# EAGLE library part SN74LVC2G08 (library TI)
SN74LVC2G08 - Dual 2-Input Positive-AND Gate Datasheet: http://www.ti.com/lit/ds/symlink/sn74lvc2g08.pdf
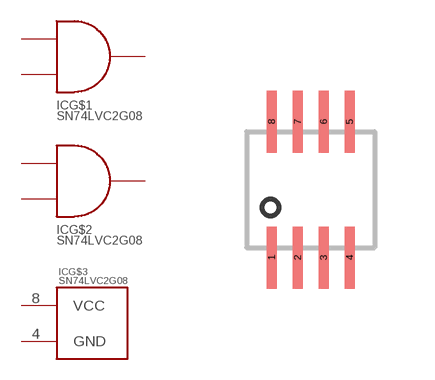
[diagram p23: symbol with the pads of DCU_(R-PDSO-G8); footprint DCU_(R-PDSO-G8)]

Designator prefix IC; gates G$1=AND G$2=AND G$3=VCC-GND

## SN74LVC2G08DCU (PARTNO: SN74LVC2G08DCU)  [DCU_(R-PDSO-G8)]
1  G$1:A  in
2  G$1:B  in
3  G$2:Y  out
4  G$3:GND  pwr
5  G$2:A  in
6  G$2:B  in
7  G$1:Y  out
8  G$3:VCC  pwr

## Footprint DCU_(R-PDSO-G8) (pad centres in mm)
DCT (R-PDSO-G8) - aka SSOP-8 Datasheet link: http://www.ti.com/lit/ds/symlink/sn74lvc2g08.pdf
smd 0.25 x 1.55: 1 -0.975,-1.7; 2 -0.325,-1.7; 3 0.325,-1.7; 4 0.975,-1.7; 5 0.975,1.7; 6 0.325,1.7; 7 -0.325,1.7; 8 -0.975,1.7